# Altium footprint library Vishay Sprague Footprints.PcbLib: 143 footprints (part 3 of 9)
Each footprint in its own frame and in the unit in brackets; x right, y up, seen from the top. Pads: shape width x height; smd on the part's side, far side on the other; paste and mask are expansions set on the pad; w line width, h text height; cw(c..) or ccw(c..) is an arc to the next point about the centre after c.
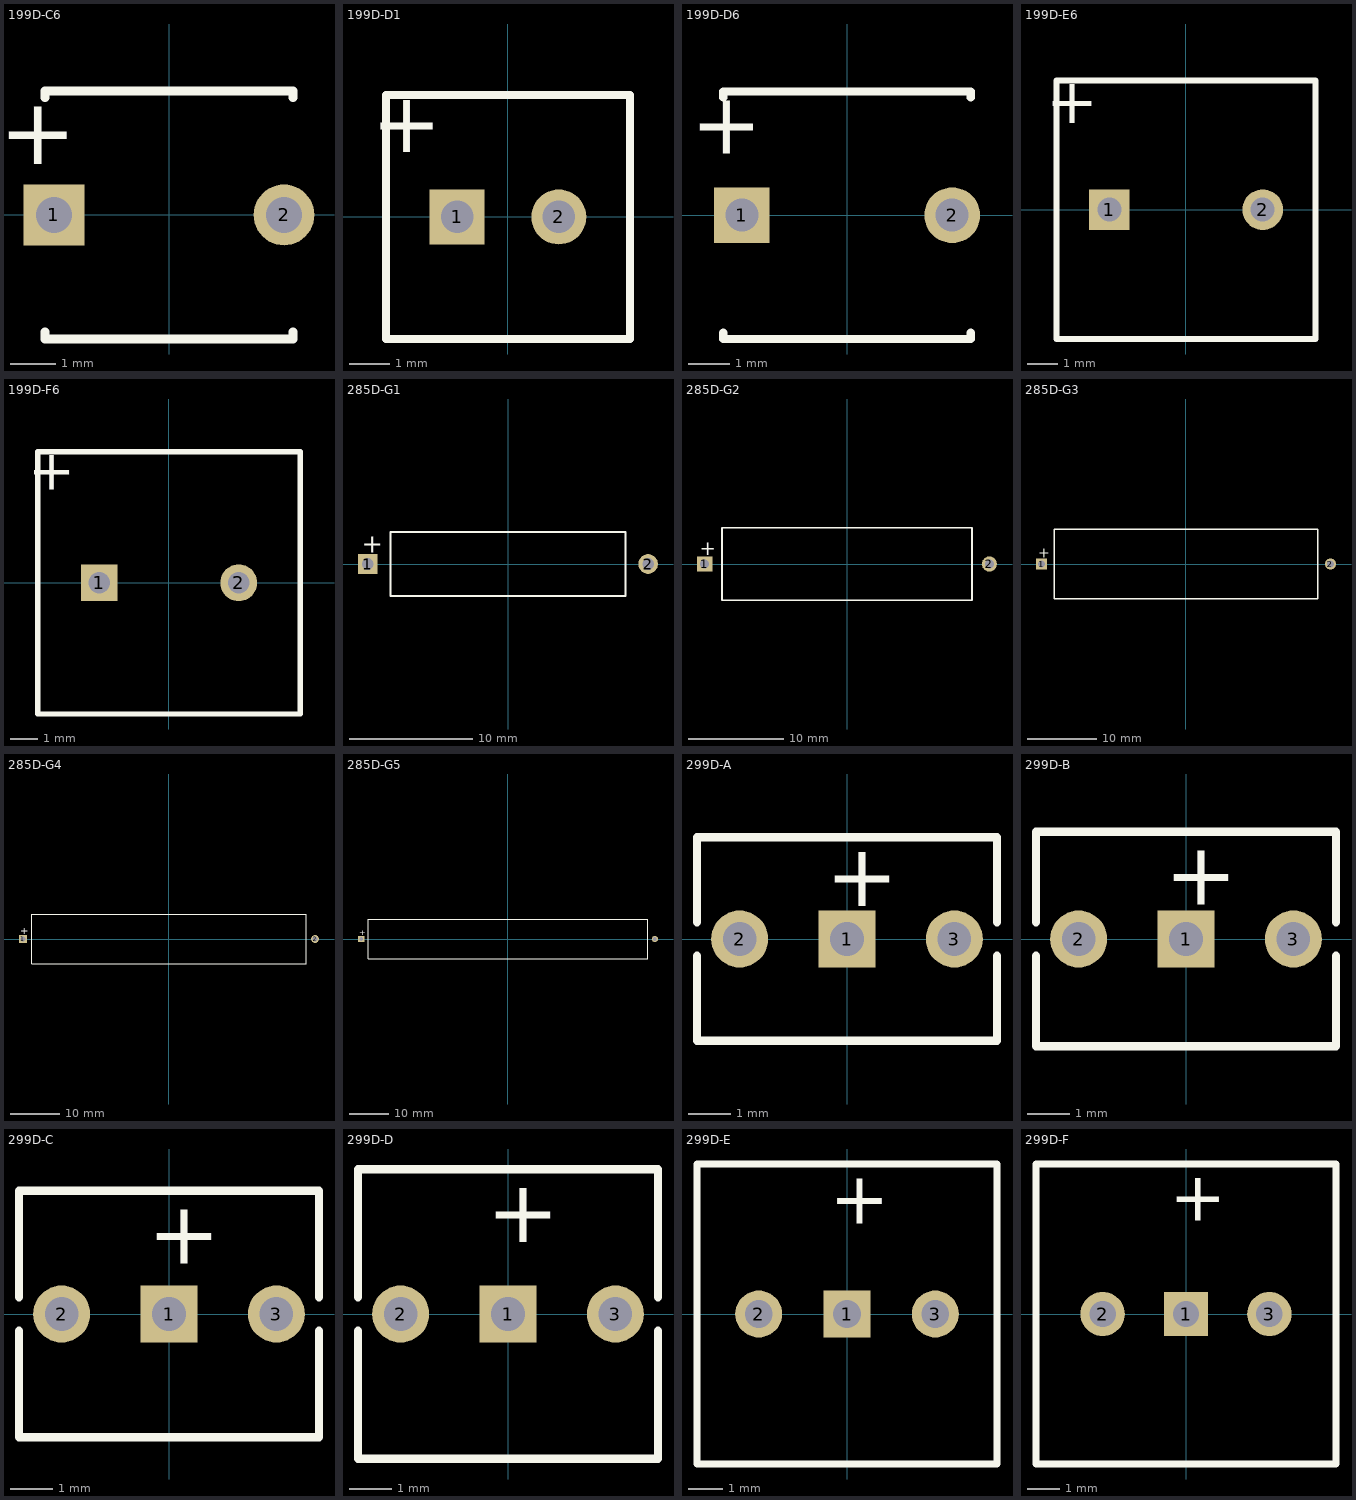
[diagram p2: the footprints below, top view; thin cyan lines are the x and y axes]

## 199D-C6 [mm] "Capacitor, Tantalum Bead; Body 5.5 x 10.67 mm (Dia.xH max); Pin Spacing 5.1 mm (typ)"
height 10.67
pads (2):
  rect 1.35x1.35 hole 0.8: 1(-2.55,0)
  round 1.35 hole 0.8: 2(2.55,0)
Top Overlay:
  lines w0.2: -2.75,-2.6 -2.75,-2.75 2.75,-2.75 2.75,-2.6 ; -2.75,2.6 -2.75,2.75 2.75,2.75 2.75,2.6
  text "+" at -2.05,2.4 h1.5

## 199D-D1 [mm] "Capacitor, Tantalum Bead; Body 6 x 10.16 mm (Dia.xH max); Pin Spacing 2.5 mm (typ)"
height 10.16
pads (2):
  rect 1.35x1.35 hole 0.8: 1(-1.25,0)
  round 1.35 hole 0.8: 2(1.25,0)
Top Overlay:
  lines w0.2: -3,-3 -3,3 3,3 3,-3 -3,-3
  text "+" at -1.625,2.875 h1.5

## 199D-D6 [mm] "Capacitor, Tantalum Bead; Body 6 x 11.68 mm (Dia.xH max); Pin Spacing 5.1 mm (typ)"
height 11.68
pads (2):
  rect 1.35x1.35 hole 0.8: 1(-2.55,0)
  round 1.35 hole 0.8: 2(2.55,0)
Top Overlay:
  lines w0.2: -3,-2.85 -3,-3 3,-3 3,-2.85 ; -3,2.85 -3,3 3,3 3,2.85
  text "+" at -2.05,2.77 h1.5

## 199D-E6 [mm] "Capacitor, Tantalum Bead; Body 8.6 x 14.02 mm (Dia.xH max); Pin Spacing 5.1 mm (typ)"
height 14.02
pads (2):
  rect 1.35x1.35 hole 0.8: 1(-2.55,0)
  round 1.35 hole 0.8: 2(2.55,0)
Top Overlay:
  lines w0.2: -4.3,-4.3 4.3,-4.3 4.3,4.3 -4.3,4.3 -4.3,-4.3
  text "+" at -2.925,4.175 h1.5

## 199D-F6 [mm] "Capacitor, Tantalum Bead; Body 9.6 x 18.03 mm (Dia.xH max); Pin Spacing 5.1 mm (typ)"
height 18.03
pads (2):
  rect 1.35x1.35 hole 0.8: 1(-2.55,0)
  round 1.35 hole 0.8: 2(2.55,0)
Top Overlay:
  lines w0.2: -4.8,-4.8 4.8,-4.8 4.8,4.8 -4.8,4.8 -4.8,-4.8
  text "+" at -3.425,4.675 h1.5

## 285D-G1 [mm] "Capacitor, Axial, Polarised; Body 19.1 x 5.2 mm (LxDia. max), Lead Dia. 0.64 mm (typ)"
height 5.2
pads (2):
  rect 1.6x1.6 hole 0.95: 1(-11.39,0)
  round 1.6 hole 0.95: 2(11.39,0)
Top Overlay:
  lines w0.2: -9.55,-2.6 -9.55,2.6 9.55,2.6 9.55,-2.6 -9.55,-2.6
  text "+" at -11.89,0.925 h1.5

## 285D-G2 [mm] "Capacitor, Axial, Polarised; Body 26.2 x 7.5 mm (LxDia. max), Lead Dia. 0.64 mm (typ)"
height 7.6
pads (2):
  rect 1.6x1.6 hole 0.95: 1(-14.93,0)
  round 1.6 hole 0.95: 2(14.93,0)
Top Overlay:
  lines w0.2: -13.1,-3.8 13.1,-3.8 13.1,3.8 -13.1,3.8 -13.1,-3.8
  text "+" at -15.43,0.925 h1.5

## 285D-G3 [mm] "Capacitor, Axial, Polarised; Body 38.1 x 9.9 mm (LxDia. max), Lead Dia. 0.64 mm (typ)"
height 10
pads (2):
  rect 1.6x1.6 hole 0.95: 1(-20.88,0)
  round 1.6 hole 0.95: 2(20.88,0)
Top Overlay:
  lines w0.2: -19.05,-5 -19.05,5 19.05,5 19.05,-5 -19.05,-5
  text "+" at -21.38,0.925 h1.5

## 285D-G4 [mm] "Capacitor, Axial, Polarised; Body 55.5 x 9.9 mm (LxDia. max), Lead Dia. 0.64 mm (typ)"
height 10
pads (2):
  rect 1.6x1.6 hole 0.95: 1(-29.63,0)
  round 1.6 hole 0.95: 2(29.63,0)
Top Overlay:
  lines w0.2: -27.8,-5 27.8,-5 27.8,5 -27.8,5 -27.8,-5
  text "+" at -30.13,0.925 h1.5

## 285D-G5 [mm] "Capacitor, Axial, Polarised; Body 71.4 x 9.9 mm (LxDia. max), Lead Dia. 0.64 mm (typ)"
height 10
pads (2):
  rect 1.6x1.6 hole 0.95: 1(-37.58,0)
  round 1.6 hole 0.95: 2(37.58,0)
Top Overlay:
  lines w0.2: -35.75,-5 35.75,-5 35.75,5 -35.75,5 -35.75,-5
  text "+" at -38.08,0.925 h1.5

## 299D-A [mm] "Capacitor, Tantalum Bead, Triple Lead; Body 7.1 x 4.82 x 9.14 mm (WxTxH max); Pin Spacing 2.54 mm (typ)"
height 9.14
pads (3):
  rect 1.35x1.35 hole 0.8: 1(0,0)
  round 1.35 hole 0.8: 2(-2.54,0) 3(2.54,0)
Top Overlay:
  lines w0.2: -3.55,-0.4 -3.55,-2.41 3.55,-2.41 3.55,-0.4 ; -3.55,0.4 -3.55,2.41 3.55,2.41 3.55,0.4
  text "+" at -0.5,0.778 h1.5

## 299D-B [mm] "Capacitor, Tantalum Bead, Triple Lead; Body 7.1 x 5.08 x 9.14 mm (WxTxH max); Pin Spacing 2.54 mm (typ)"
height 9.14
pads (3):
  rect 1.35x1.35 hole 0.8: 1(0,0)
  round 1.35 hole 0.8: 2(-2.54,0) 3(2.54,0)
Top Overlay:
  lines w0.2: -3.55,-0.4 -3.55,-2.54 3.55,-2.54 3.55,-0.4 ; -3.55,0.4 -3.55,2.54 3.55,2.54 3.55,0.4
  text "+" at -0.5,0.81 h1.5

## 299D-C [mm] "Capacitor, Tantalum Bead, Triple Lead; Body 7.1 x 5.84 x 9.65 mm (WxTxH max); Pin Spacing 2.54 mm (typ)"
height 9.65
pads (3):
  rect 1.35x1.35 hole 0.8: 1(0,0)
  round 1.35 hole 0.8: 2(-2.54,0) 3(2.54,0)
Top Overlay:
  lines w0.2: -3.55,-0.4 -3.55,-2.92 3.55,-2.92 3.55,-0.4 ; -3.55,0.4 -3.55,2.92 3.55,2.92 3.55,0.4
  text "+" at -0.5,1.19 h1.5

## 299D-D [mm] "Capacitor, Tantalum Bead, Triple Lead; Body 7.1 x 6.85 x 11.17 mm (WxTxH max); Pin Spacing 2.54 mm (typ)"
height 11.17
pads (3):
  rect 1.35x1.35 hole 0.8: 1(0,0)
  round 1.35 hole 0.8: 2(-2.54,0) 3(2.54,0)
Top Overlay:
  lines w0.2: -3.55,-0.4 -3.55,-3.425 3.55,-3.425 3.55,-0.4 ; -3.55,0.4 -3.55,3.425 3.55,3.425 3.55,0.4
  text "+" at -0.5,1.7 h1.5

## 299D-E [mm] "Capacitor, Tantalum Bead, Triple Lead; Body 8.63 x 8.63 x 14.22 mm (WxTxH max); Pin Spacing 2.54 mm (typ)"
height 14.22
pads (3):
  rect 1.35x1.35 hole 0.8: 1(0,0)
  round 1.35 hole 0.8: 2(-2.54,0) 3(2.54,0)
Top Overlay:
  lines w0.2: -4.315,-4.315 4.315,-4.315 4.315,4.315 -4.315,4.315 -4.315,-4.315
  text "+" at -0.5,2.59 h1.5

## 299D-F [mm] "Capacitor, Tantalum Bead, Triple Lead; Body 9.14 x 9.14 x 15.74 mm (WxTxH max); Pin Spacing 2.54 mm (typ)"
height 15.74
pads (3):
  rect 1.35x1.35 hole 0.8: 1(0,0)
  round 1.35 hole 0.8: 2(-2.54,0) 3(2.54,0)
Top Overlay:
  lines w0.2: -4.57,-4.57 -4.57,4.57 4.57,4.57 4.57,-4.57 -4.57,-4.57
  text "+" at -0.499,2.84 h1.5